# EAGLE library part LTC3714 (library PowerProducts)
Intel Compatible, Wide Operating Range, Step-Down Controller with Internal Op Amp
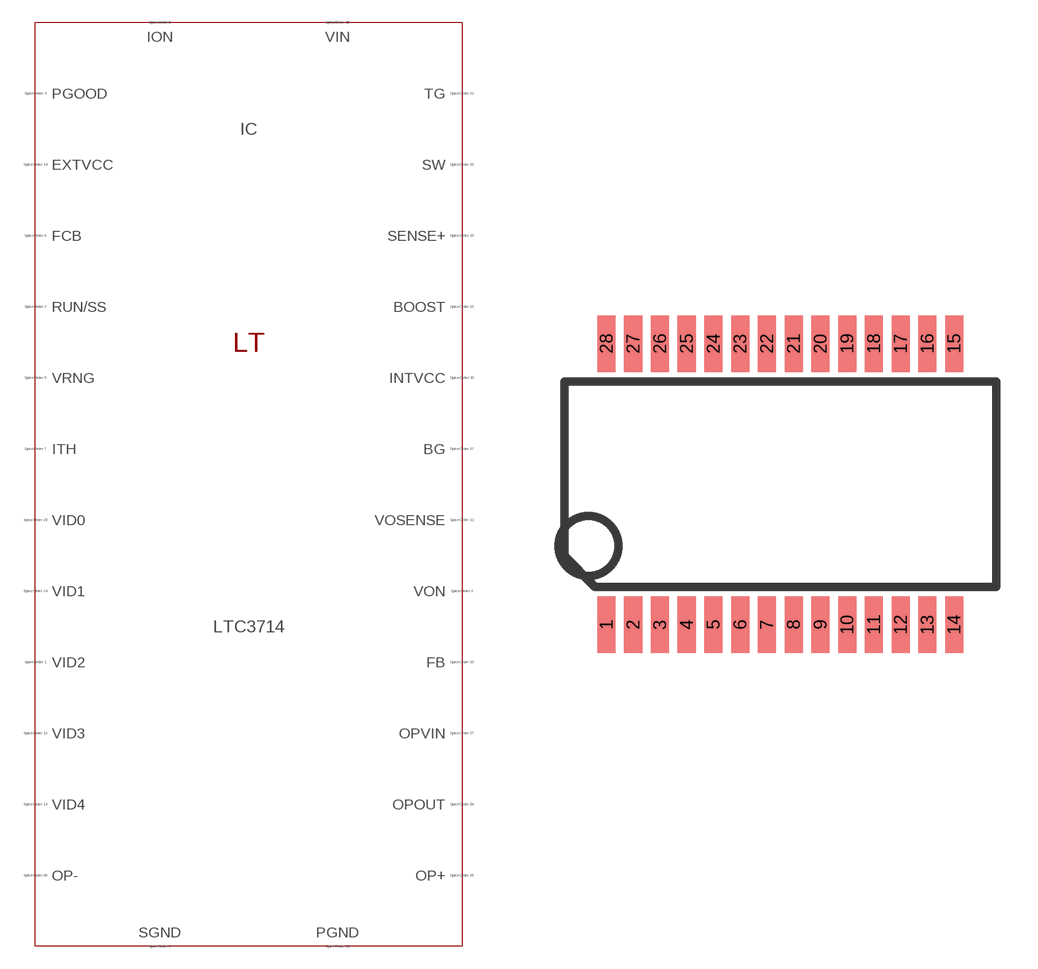
[diagram p291: symbol with the pads of SSOP28(G); footprint SSOP28(G)]

Designator prefix IC

## LTC3714 (SPICEMODEL: LTC3714.sub; SPICEPREFIX: X; VALUE2: LTC3714)  [SSOP28(G)]
1  BG  pas
2  PGND  pas
3  SENSE+  pas
4  SW  pas
5  TG  pas
6  BOOST  pas
7  VID0  pas
8  VID1  pas
9  VID2  pas
10  RUN/SS  pas
11  VON  pas
12  PGOOD  pas
13  VRNG  pas
14  ITH  pas
15  OPVIN  pas
16  OP-  pas
17  OP+  pas
18  OPOUT  pas
19  SGND  pas
20  FCB  pas
21  ION  pas
22  FB  pas
23  VOSENSE  pas
24  VID3  pas
25  VID4  pas
26  EXTVCC  pas
27  VIN  pas
28  INTVCC  pas

## Footprint SSOP28(G) (pad centres in mm)
Package generated from: SSOP28(G).asc (!PADS-POWERPCB-V5.0-BASIC! DESIGN DATABASE ASCII FILE 1.0) with :import-pads-powerpcb-v5.ulp Version 1.0.1 at 04.10.2012 14:11:39
smd 0.66 x 2.055: 1 -6.338,-5.122; 2 -5.362,-5.122; 3 -4.388,-5.122; 4 -3.413,-5.122; 5 -2.438,-5.122; 6 -1.462,-5.122; 7 -0.487,-5.122; 8 0.487,-5.122; 9 1.462,-5.122; 10 2.438,-5.122; 11 3.413,-5.122; 12 4.388,-5.122; 13 5.362,-5.122; 14 6.338,-5.122; 15 6.338,5.122; 16 5.362,5.122; 17 4.388,5.122; 18 3.413,5.122; 19 2.438,5.122; 20 1.462,5.122; 21 0.487,5.122; 22 -0.487,5.122; 23 -1.462,5.122; 24 -2.438,5.122; 25 -3.413,5.122; 26 -4.388,5.122; 27 -5.362,5.122; 28 -6.338,5.122